# Altium schematic symbol library SCH - IC-Sensors - ADT7410.SchLib: 1 symbol
Pins are listed as number, name and electrical type; pins without a type are passive.

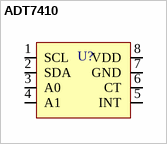
[diagram p0: symbol ADT7410]

## ADT7410
designator U?
pins: 1 SCL (in) "Clock", 2 SDA (io) "Serial Data I/O", 3 A0 (in) "Adress Selection 0", 4 A1 (in) "Adress Selection 1", 5 INT (out) "Over/Undertemperature Indicator", 6 CT (out) "Critical Temperature Indicator", 7 GND (power), 8 VDD (power) "+3.3V"